# Altium footprint library TFT.PcbLib: 9 footprints
Each footprint in its own frame and in the unit in brackets; x right, y up, seen from the top. Pads: shape width x height; smd on the part's side, far side on the other; paste and mask are expansions set on the pad; w line width, h text height; cw(c..) or ccw(c..) is an arc to the next point about the centre after c.
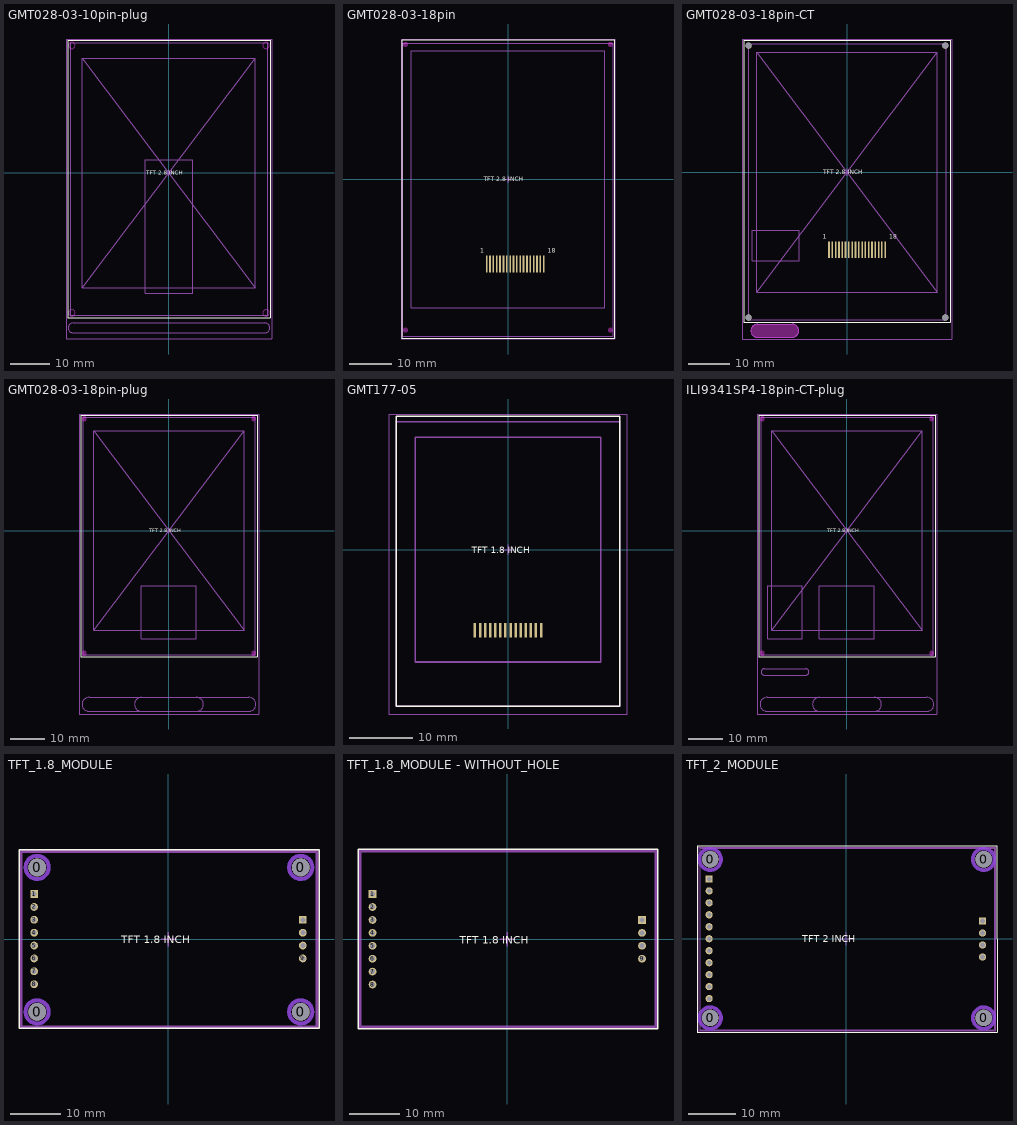
[diagram p0: the footprints below, top view; thin cyan lines are the x and y axes]

## GMT028-03-10pin-plug [mm]
Top Overlay:
  lines w0.254: -25.629,-36.671 -25.629,33.586 25.679,33.586 25.679,-36.671 -25.629,-36.671
  text "TFT 2.8 INCH" at -5.755,-0.501 h1.02
Keep-Out Layer:
  circle w0.127: c24.586,32.283 r0.813
  circle w0.127: c-24.587,32.283 r0.813
  circle w0.127: c24.586,-35.422 r0.813
  circle w0.127: c-24.587,-35.422 r0.813
Mechanical 1:
  lines w0.127: -21.895,-29 21.895,29 ; -21.895,29 21.895,-29 ; -25.044,-36.087 -25.044,32.925 25.045,32.925 25.045,-36.087 -25.044,-36.087
  lines w0.254: -21.895,-29 21.895,-29 21.895,29 -21.895,29 -21.895,-29
Mechanical 4:
  lines w0.254: -5.975,-30.48 -5.975,3.353 5.975,3.353 5.975,-30.48 -5.975,-30.48
  text "FPC placement zone" at -4.351,-10.825 h1.02
  text "1" at -6.849,-30.505 h1.02
  text "10" at 6.096,-30.505 h1.02
Top Designator:
  text ".Designator" at -5.998,-0.393 h1.2
Mechanical 15:
  lines w0.127: -0.8,0.007 0.8,0.007 ; 0,-0.793 0,0.807 ; -26.035,-42.037 26.06,-42.037 26.06,33.909 -26.035,33.909 -26.035,-42.037 ; -24.232,-40.513 cw(c-24.232,-39.243) -24.232,-37.973 24.232,-37.973 cw(c24.232,-39.243) 24.232,-40.513 -24.232,-40.513
  text "KEEPOUT" at -3.404,-39.707 h1.02
3D body "2.8_TFT_Display-Touch.step": height 4, standoff -0.77, extent -25.036,-37.183 25.024,33.145

## GMT028-03-18pin [mm]
pads (18):
  rect 0.4x4 smd: 1(-5.098,-20.142) 2(-4.298,-20.142) 3(-3.498,-20.142) 4(-2.698,-20.142) 5(-1.898,-20.142) 6(-1.098,-20.142) 7(-0.298,-20.142) 8(0.502,-20.142) 9(1.302,-20.142) 10(2.102,-20.142) 11(2.902,-20.142) 12(3.702,-20.142) 13(4.502,-20.142) 14(5.302,-20.142) 15(6.102,-20.142) 16(6.902,-20.142) 17(7.702,-20.142) 18(8.502,-20.142)
Top Overlay:
  lines w0.254: -25.298,-37.871 -25.298,33.274 25.273,33.274 25.273,-37.871 -25.298,-37.871
  text "TFT 2.8 INCH" at -5.755,-0.508 h1.02
  text "1" at -6.646,-17.5 h1.02
  text "18" at 9.449,-17.5 h1.02
Keep-Out Layer:
  drawing of 4 lines, arcs and shapes, not listed
Mechanical 1:
  lines w0.127: -25.069,-37.338 -25.069,32.487 25.019,32.487 25.019,-37.338 -25.069,-37.338
Top Designator:
  text ".Designator" at -5.998,-0.4 h1.2
Mechanical 15:
  lines w0.025: -25.476,-38.049 25.451,-38.049 25.451,33.452 -25.476,33.452 -25.476,-38.049
  lines w0.127: -0.8,0 0.8,0 ; 0,-0.8 0,0.8
  lines w0.254: -23.037,-30.658 23.045,-30.658 23.045,30.683 -23.037,30.683 -23.037,-30.658
3D body "2.8_TFT_Display-Touch.step": height 4, standoff -0.77, extent -25.061,-37.596 24.999,32.732

## GMT028-03-18pin-CT [mm]
pads (22):
  rect 0.4x4 smd: 1(-4.387,-18.701) 2(-3.587,-18.701) 3(-2.787,-18.701) 4(-1.987,-18.701) 5(-1.187,-18.701) 6(-0.387,-18.701) 7(0.413,-18.701) 8(1.213,-18.701) 9(2.013,-18.701) 10(2.813,-18.701) 11(3.613,-18.701) 12(4.413,-18.701) 13(5.213,-18.701) 14(6.013,-18.701) 15(6.813,-18.701) 16(7.613,-18.701) 17(8.413,-18.701) 18(9.213,-18.701)
  round 1.5 hole 1.5 unplated: H(-23.852,-35.149) H(-23.852,30.651) H(23.748,-35.149) H(23.748,30.651)
Top Overlay:
  lines w0.254: -25.044,-36.278 24.943,-36.278 24.943,31.896 -25.044,31.896 -25.044,-36.278
  text "18" at 10.16,-16.059 h1.02
  text "1" at -5.935,-16.059 h1.02
  text "TFT 2.8 INCH" at -5.755,-0.515 h1.02
Keep-Out Layer:
  board cut-out: -21.729,-36.811 -21.883,-36.811 -22.184,-36.871 -22.469,-36.989 -22.725,-37.16 -22.942,-37.378 -23.113,-37.633 -23.231,-37.918 -23.291,-38.22 -23.291,-38.374 -23.291,-38.527 -23.231,-38.829 -23.113,-39.113 -22.942,-39.369 -22.725,-39.587 -22.469,-39.758 -22.184,-39.876 -21.883,-39.936 -21.729,-39.936 -13.273,-39.936 -13.119,-39.936 -12.817,-39.876 -12.533,-39.758 -12.277,-39.587 -12.059,-39.369 -11.888,-39.113 -11.77,-38.829 -11.71,-38.527 -11.71,-38.374 -11.71,-38.22 -11.77,-37.918 -11.888,-37.634 -12.059,-37.378 -12.277,-37.16 -12.533,-36.989 -12.817,-36.871 -13.119,-36.811 -13.273,-36.811
Keep-Out Layer:
  lines w0.127: -21.779,-36.811 -13.323,-36.811 ; -21.729,-39.936 cw(c-21.729,-38.374) -23.291,-38.374 cw(c-21.729,-38.374) -21.729,-36.811 ; -13.323,-39.936 -21.78,-39.936 ; -13.273,-39.936 ccw(c-13.273,-38.374) -11.71,-38.374 ccw(c-13.273,-38.374) -13.273,-36.811 ; -21.78,-39.936 ccw(c-21.78,-39.936) -21.78,-39.936 ; -21.78,-39.936 -21.78,-39.936 ; -13.323,-36.811 ccw(c-13.323,-36.811) -13.323,-36.811
Mechanical 1:
  lines w0.127: -21.844,-29 21.844,29 ; -21.844,29 21.844,-29 ; 23.799,-35.643 -23.901,-35.643 -23.901,31.057 23.799,31.057 ; 23.8,-35.643 23.8,31.057
  lines w0.254: -21.844,-29 21.844,-29 21.844,29 -21.844,29 -21.844,-29
Top Courtyard:
  lines w0.127: -22.911,-21.457 -11.633,-21.457 -11.633,-14.082 -22.911,-14.082 -22.911,-21.457
  text "FCC 0.5mm" at -21.614,-21.089 h1.02
Top Designator:
  text ".Designator" at -5.998,-0.407 h1.2
Mechanical 15:
  lines w0.127: -21.78,-39.936 -13.323,-39.936 ; -21.729,-39.936 cw(c-21.729,-38.374) -23.291,-38.374 cw(c-21.729,-38.374) -21.729,-36.811 ; -13.323,-36.811 -21.779,-36.811 ; -13.273,-39.936 ccw(c-13.273,-38.373) -11.71,-38.373 ccw(c-13.273,-38.373) -13.273,-36.811 ; -0.8,0.005 0.8,0.005 ; 0,-0.795 0,0.805 ; -21.78,-36.811 -21.779,-36.811 ; -25.349,-40.342 -25.349,32.258 25.273,32.258 25.273,-40.342 -25.349,-40.342
  text "KEEPOUT" at -20.955,-38.869 h1.02
3D body: height 2.1, standoff 0, extent -23.901,-35.643 23.8,31.057

## GMT028-03-18pin-plug [mm]
Top Overlay:
  lines w0.254: -25.629,-36.671 25.679,-36.671 25.679,33.586 -25.629,33.586 -25.629,-36.671
  text "TFT 2.8 INCH" at -5.755,-0.501 h1.02
Keep-Out Layer:
  drawing of 4 lines, arcs and shapes, not listed
Keep-Out Layer:
  circle w0.127: c-24.612,-35.65 r0.586
  circle w0.127: c24.611,-35.65 r0.586
  circle w0.127: c24.611,32.537 r0.586
  circle w0.127: c-24.612,32.537 r0.586
Mechanical 1:
  lines w0.127: -21.895,-29 21.895,29 ; -21.895,29 21.895,-29 ; -25.044,-36.087 25.045,-36.087 25.045,32.925 -25.044,32.925 -25.044,-36.087
  lines w0.254: -21.895,-29 21.895,-29 21.895,29 -21.895,29 -21.895,-29
Mechanical 4:
  lines w0.254: -8,-31.394 8,-31.394 8,-15.977 -8,-15.977 -8,-31.394
  text "18" at 8.103,-33.071 h1.02
  text "1" at -8.907,-33.071 h1.02
  text "FPC placement zone" at -4.55,-28.859 h1.02
Top Designator:
  text ".Designator" at -5.998,-0.393 h1.2
Mechanical 15:
  lines w0.127: -8,-52.527 cw(c-8,-50.495) -8,-48.463 ; -0.8,0.007 0.8,0.007 ; 0,-0.793 0,0.807 ; 8,-52.527 ccw(c8,-50.495) 8,-48.463 ; -26.035,-53.315 -26.035,33.909 26.06,33.909 26.06,-53.315 -26.035,-53.315 ; -23.241,-52.527 cw(c-23.241,-50.495) -23.241,-48.463 23.241,-48.463 cw(c23.241,-50.495) 23.241,-52.527 -23.241,-52.527
  text "KEEPOUT" at -3.386,-50.927 h1.02
3D body "2.8_TFT_Display-Touch.step": height 4, standoff -0.77, extent -25.036,-37.183 25.024,33.145

## GMT177-05 [mm]
pads (14):
  rect 0.4x2.3 smd: 1(5.2,-12.635) 2(4.4,-12.635) 3(3.6,-12.635) 4(2.8,-12.635) 5(2,-12.635) 6(1.2,-12.635) 7(0.4,-12.635) 8(-0.4,-12.635) 9(-1.2,-12.635) 10(-2,-12.635) 11(-2.8,-12.635) 12(-3.6,-12.635) 13(-4.4,-12.635) 14(-5.2,-12.635)
Top Overlay:
  lines w0.254: -17.6,-24.635 -17.6,21.006 17.6,21.006 17.6,-24.635 -17.6,-24.635
  text "TFT 1.8 INCH" at -5.671,-0.508 h1.02
Mechanical 1:
  lines w0.254: -17.602,-24.638 17.602,-24.638 17.602,20.168 -17.602,20.168 -17.602,-24.638
Top Designator:
  text ".Designator" at -5.998,-0.4 h1.2
Mechanical 15:
  lines w0.025: -18.8,-25.835 18.8,-25.835 18.8,21.365 -18.8,21.365 -18.8,-25.835
  lines w0.127: -0.8,0 0.8,0 ; 0,-0.8 0,0.8
  lines w0.254: -14.605,-17.653 14.605,-17.653 14.605,17.678 -14.605,17.678 -14.605,-17.653
3D body: height 2.6, standoff 0.15, extent -17.6,-24.635 17.6,20.165

## ILI9341SP4-18pin-CT-plug [mm]
Top Overlay:
  lines w0.254: -25.629,-36.671 25.679,-36.671 25.679,33.586 -25.629,33.586 -25.629,-36.671
  text "TFT 2.8 INCH" at -5.755,-0.501 h1.02
Keep-Out Layer:
  drawing of 4 lines, arcs and shapes, not listed
Keep-Out Layer:
  circle w0.127: c-24.612,-35.65 r0.586
  circle w0.127: c24.611,-35.65 r0.586
  circle w0.127: c24.611,32.537 r0.586
  circle w0.127: c-24.612,32.537 r0.586
Mechanical 1:
  lines w0.127: -21.895,-29 21.895,29 ; -21.895,29 21.895,-29 ; -25.044,-36.087 25.045,-36.087 25.045,32.925 -25.044,32.925 -25.044,-36.087
  lines w0.254: -21.895,-29 21.895,-29 21.895,29 -21.895,29 -21.895,-29
Mechanical 4:
  lines w0.254: -23,-31.394 -23,-15.977 -13,-15.977 -13,-31.394 -23,-31.394 ; -8,-31.394 8,-31.394 8,-15.977 -8,-15.977 -8,-31.394
  text "FPC placement zone" at -22.686,-28.453 h1.02
  text "18" at 8.103,-33.071 h1.02
  text "1" at -8.907,-33.071 h1.02
  text "FPC placement zone" at -4.55,-28.859 h1.02
  text "6" at -12.573,-32.867 h1.02
  text "1" at -24.071,-32.867 h1.02
Top Designator:
  text ".Designator" at -5.998,-0.393 h1.2
Mechanical 15:
  lines w0.127: -8,-52.527 cw(c-8,-50.495) -8,-48.463 ; -0.8,0.007 0.8,0.007 ; 0,-0.793 0,0.807 ; 8,-52.527 ccw(c8,-50.495) 8,-48.463 ; -26.035,-53.315 -26.035,33.909 26.06,33.909 26.06,-53.315 -26.035,-53.315 ; -24,-42.012 cw(c-24,-41.084) -24,-40.157 -12,-40.157 cw(c-12,-41.084) -12,-42.012 -24,-42.012 ; -23.241,-52.527 cw(c-23.241,-50.495) -23.241,-48.463 23.241,-48.463 cw(c23.241,-50.495) 23.241,-52.527 -23.241,-52.527
  text "KEEPOUT" at -21.318,-41.554 h1.02
  text "KEEPOUT" at -3.386,-50.927 h1.02
3D body "2.8_TFT_Display-Touch.step": height 4, standoff -0.77, extent -25.036,-37.183 25.024,33.145

## TFT_1.8_MODULE [mm]
pads (16):
  round 3.5 hole 3.5 unplated: 0(-25.908,-14.351) 0(-25.908,14.149) 0(26.092,-14.351) 0(26.092,14.149)
  rect 1.524x1.524 hole 1: 1(-26.5,8.89) 12(26.5,3.81)
  round 1.524 hole 1: 2(-26.5,6.35) 3(-26.5,3.81) 4(-26.5,1.27) 5(-26.5,-1.27) 6(-26.5,-3.81) 7(-26.5,-6.35) 8(-26.5,-8.89) 9(26.5,-3.81) 10(26.5,-1.27) 11(26.5,1.27)
Top Layer keep-out:
  circle w0.762: c26.092,14.149 r2.286
  circle w0.762: c26.092,-14.351 r2.286
  circle w0.762: c-25.908,-14.351 r2.286
  circle w0.762: c-25.908,14.149 r2.286
Bottom Layer keep-out:
  circle w0.762: c26.092,14.149 r2.286
  circle w0.762: c26.092,-14.351 r2.286
  circle w0.762: c-25.908,-14.351 r2.286
  circle w0.762: c-25.908,14.149 r2.286
Top Overlay:
  lines w0.254: -29.489,-17.628 -29.489,17.678 29.693,17.678 29.693,-17.628 -29.489,-17.628
  text "TFT 1.8 INCH" at -9.335,-1.349 h2.54
Mechanical 1:
  lines w0.254: -28.905,-17.145 29.134,-17.145 29.134,17.145 -28.905,17.145 -28.905,-17.145
Top Designator:
  text ".Designator" at -5.998,-0.4 h1.2
Mechanical 15:
  lines w0.254: -1.397,0 1.397,0 ; 0,-1.397 0,1.397 ; -29.185,-17.399 29.413,-17.399 29.413,17.424 -29.185,17.424 -29.185,-17.399
3D body "AZ-Delivery 1.8 inch TFT Display SPI.stp": height 8.9, standoff -3.6, extent -28.913,-17.228 29.087,17.272

## TFT_1.8_MODULE - WITHOUT_HOLE [mm]
pads (12):
  rect 1.524x1.524 hole 1: 1(-26.5,8.89) 12(26.5,3.81)
  round 1.524 hole 1: 2(-26.5,6.35) 3(-26.5,3.81) 4(-26.5,1.27) 5(-26.5,-1.27) 6(-26.5,-3.81) 7(-26.5,-6.35) 8(-26.5,-8.89) 9(26.5,-3.81) 10(26.5,-1.27) 11(26.5,1.27)
Top Overlay:
  lines w0.254: -29.362,-17.628 -29.362,17.755 29.642,17.755 29.642,-17.628 -29.362,-17.628
  text "TFT 1.8 INCH" at -9.335,-1.349 h2.54
Mechanical 1:
  lines w0.254: -28.829,-17.145 29.083,-17.145 29.083,17.196 -28.829,17.196 -28.829,-17.145
Top Designator:
  text ".Designator" at -5.998,-0.4 h1.2
Mechanical 15:
  lines w0.254: -1.397,0 1.397,0 ; 0,-1.397 0,1.397 ; -29.083,-17.399 -29.083,17.475 29.362,17.475 29.362,-17.399 -29.083,-17.399
3D body "AZ-Delivery 1.8 inch TFT Display SPI.stp": height 8.9, standoff -3.6, extent -28.913,-17.228 29.087,17.272

## TFT_2_MODULE [mm]
pads (19):
  round 3.5 hole 3.5 unplated: 0(-28.887,-16.83) 0(-28.887,16.83) 0(29.123,-16.83) 0(29.123,16.83)
  rect 1.524x1.524 hole 1: 1(-29.123,12.677) 15(28.887,3.726)
  round 1.524 hole 1: 2(-29.123,10.137) 3(-29.123,7.597) 4(-29.123,5.057) 5(-29.123,2.517) 6(-29.123,-0.023) 7(-29.123,-2.563) 8(-29.123,-5.103) 9(-29.123,-7.643) 10(-29.123,-10.183) 11(-29.123,-12.723) 12(28.887,-3.894) 13(28.887,-1.354) 14(28.887,1.186)
Top Layer keep-out:
  circle w0.762: c29.123,16.83 r2.286
  circle w0.762: c29.123,-16.83 r2.286
  circle w0.762: c-28.887,-16.83 r2.286
  circle w0.762: c-28.887,16.83 r2.286
Bottom Layer keep-out:
  circle w0.762: c29.123,16.83 r2.286
  circle w0.762: c29.123,-16.83 r2.286
  circle w0.762: c-28.887,-16.83 r2.286
  circle w0.762: c-28.887,16.83 r2.286
Top Overlay:
  lines w0.254: -31.699,-19.837 31.953,-19.837 31.953,19.685 -31.699,19.685 -31.699,-19.837
  text "TFT 2 INCH" at -9.335,-1.349 h2.54
Mechanical 1:
  lines w0.254: -31.14,-19.329 -31.14,19.152 31.42,19.152 31.42,-19.329 -31.14,-19.329
Top Designator:
  text ".Designator" at -5.998,-0.425 h1.2
Mechanical 15:
  lines w0.254: -1.397,-0.025 1.397,-0.025 ; 0,-1.422 0,1.372 ; -31.42,-19.583 -31.42,19.431 31.699,19.431 31.699,-19.583 -31.42,-19.583
3D body "2.0 LCD TFT Module - Without Glass.stp": height 6.71, standoff -5.11, extent -31.129,-19.302 31.405,19.154